# Altium footprint library O_JonF_DaveL.PcbLib: 331 footprints (part 19 of 21)
Each footprint in its own frame and in the unit in brackets; x right, y up, seen from the top. Pads: shape width x height; smd on the part's side, far side on the other; paste and mask are expansions set on the pad; w line width, h text height; cw(c..) or ccw(c..) is an arc to the next point about the centre after c.
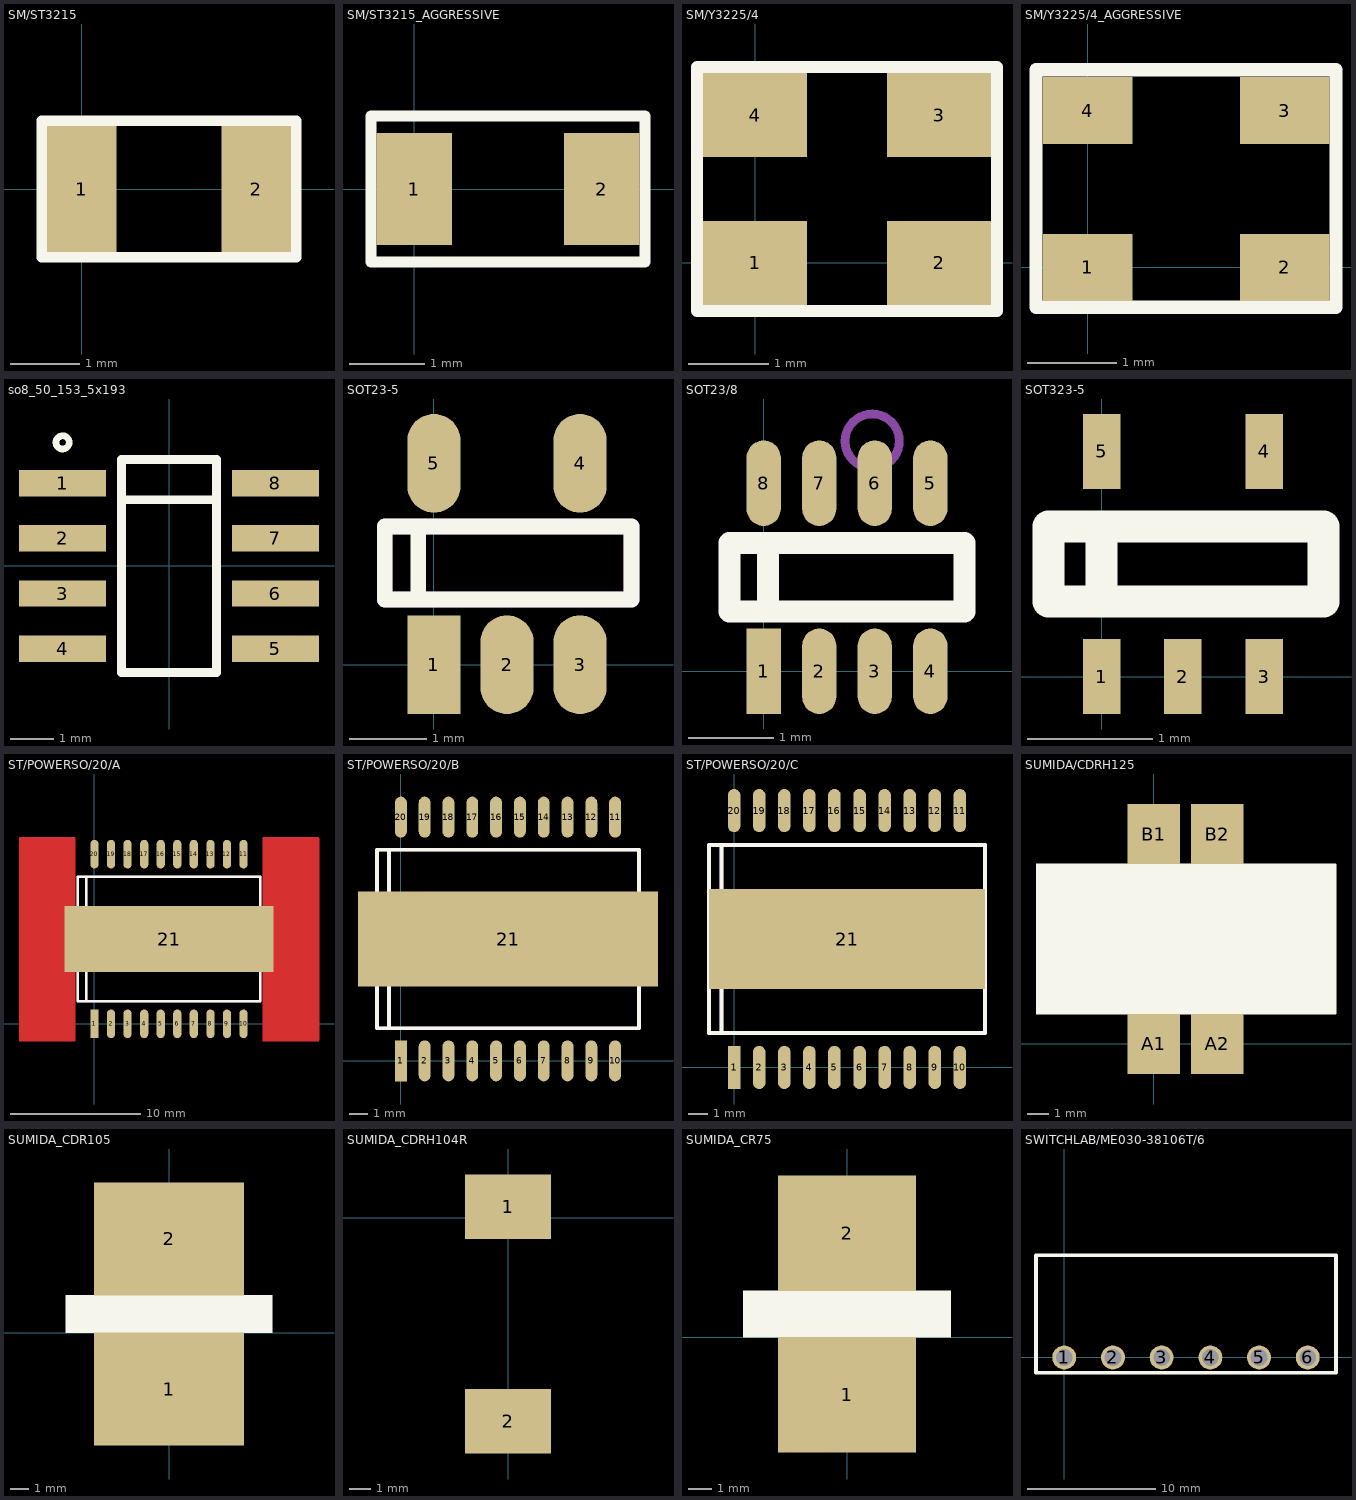
[diagram p18: the footprints below, top view; thin cyan lines are the x and y axes]

## SM/ST3215 [mm]
pads (2):
  rect 1x1.8 smd: 1(0,0) 2(2.5,0)
Top Overlay:
  lines w0.15: -0.575,-0.975 3.075,-0.975 3.075,0.975 -0.575,0.975 -0.575,-0.975
  text ".Designator" at -0.658,0.836 h1.5
Mechanical 1:
  text ".Designator" at 0,9 h1.5
  text ".Comment" at 0,6 h1.5
  text ".Pattern" at 0,0 h1.5

## SM/ST3215_AGGRESSIVE [mm]
pads (2):
  rect 1x1.5 smd: 1(0,0) 2(2.5,0)
Top Overlay:
  lines w0.15: -0.575,-0.975 -0.575,0.975 3.075,0.975 3.075,-0.975 -0.575,-0.975
  text ".Designator" at -0.658,0.836 h1.5
Mechanical 1:
  text ".Pattern" at 0,0 h1.5
  text ".Comment" at 0,6 h1.5
  text ".Designator" at 0,9 h1.5

## SM/Y3225/4 [mm]
pads (4):
  rect 1.3x1.05 smd: 1(0,0) 2(2.3,0) 3(2.3,1.85) 4(0,1.85)
Top Overlay:
  lines w0.15: -0.726,-0.599 3.025,-0.599 3.025,2.448 -0.726,2.448 -0.726,-0.599
  text ".Designator" at -0.77,2.375 h1.5
Mechanical 1:
  text ".Pattern" at 0,0 h1.5
  text ".Comment" at 0,6 h1.5
  text ".Designator" at 0,9 h1.5

## SM/Y3225/4_AGGRESSIVE [mm]
pads (4):
  rect 1x0.75 smd: 1(0,0) 2(2.2,0) 3(2.2,1.75) 4(0,1.75)
Top Overlay:
  lines w0.15: -0.576,-0.444 2.773,-0.444 2.773,2.205 -0.576,2.205 -0.576,-0.444
  text ".Designator" at -0.77,2.375 h1.5
Mechanical 1:
  text ".Pattern" at 0,0 h1.5
  text ".Comment" at 0,6 h1.5
  text ".Designator" at 0,9 h1.5

## so8_50_153_5x193 [mil]
pads (8):
  rect 79x24 smd: 1(-96.5,75) 2(-96.5,25) 3(-96.5,-25) 4(-96.5,-75) 5(96.5,-75) 6(96.5,-25) 7(96.5,25) 8(96.5,75)
Top Overlay:
  circle w6: c-96.5,112 r6
  lines w8: -43,60 43,60 ; -43,-96.5 43,-96.5 43,96.5 -43,96.5 -43,-96.5

## SOT23-5 [mil]
pads (5):
  rect 27x50 smd: 1(0,0)
  oval 27x50 smd: 2(37,0) 3(74,0) 4(74,102) 5(0,102)
Top Overlay:
  lines w8: -8,34 -8,69 ; -25,33 100,33 100,70 -25,70 -25,33
Mechanical 1:
  lines w8: -25,33 -25,70 100,70 100,33 -25,33

## SOT23/8 [mm]
pads (8):
  rect 0.4x1 smd: 1(0,0)
  oval 0.4x1 smd: 2(0.65,0) 3(1.3,0) 4(1.95,0) 5(1.95,2.2) 6(1.3,2.2) 7(0.65,2.2) 8(0,2.2)
Top Overlay:
  lines w0.254: 0.05,0.7 0.05,1.5 ; -0.4,0.7 -0.4,1.5 2.35,1.5 2.35,0.7 -0.4,0.7
  text ".Designator" at -1.268,3.554 h0.95
Mechanical 1:
  text ".Pattern" at -3.468,-1.67 h0.57
  text ".Designator" at -0.288,0.124 h0.95
Mechanical 3:
  lines w0.102: 0.952,2.692 cw(c1.27,2.692) 1.27,3.01 cw(c1.27,2.692) 1.587,2.692 cw(c1.27,2.692) 1.27,2.375 cw(c1.27,2.692) 0.953,2.692

## SOT323-5 [mm]
pads (5):
  rect 0.3x0.6 smd: 1(0,0) 2(0.65,0) 3(1.3,0) 4(1.3,1.8) 5(0,1.8)
Top Overlay:
  lines w0.254: 0,0.6 0,1.2 ; -0.425,0.6 1.775,0.6 1.775,1.2 -0.425,1.2 -0.425,0.6
  text ".Designator" at -1.7,-2.2 h0.95
Mechanical 1:
  text ".Pattern" at -2.8,2.1 h0.95
  text ".Designator" at -1.7,-2.2 h0.95
  text ".Comment" at -1.9,4.6 h0.95

## ST/POWERSO/20/A [mil]
pads (21):
  rect 25x86 smd: 1(0,0)
  oval 25x86 smd: 2(50,0) 3(100,0) 4(150,0) 5(200,0) 6(250,0) 7(300,0) 8(350,0) 9(400,0) 10(450,0) 11(450,512) 12(400,512) 13(350,512) 14(300,512) 15(250,512) 16(200,512) 17(150,512) 18(100,512) 19(50,512) 20(0,512)
  rect 630x200 smd: 21(225,256)
Top Layer:
  region: -58.09,561.91 -57.29,560 -57.29,-50 -58.09,-51.91 -60,-52.71 -225,-52.71 -226.91,-51.91 -227.71,-50 -227.71,560 -226.91,561.91 -225,562.71 -60,562.71
  region: 676.91,561.91 677.71,560 677.71,-50 676.91,-51.91 675,-52.71 510,-52.71 508.09,-51.91 507.29,-50 507.29,560 508.09,561.91 510,562.71 675,562.71
Top Overlay:
  lines w8: -25,68.5 -25,443.5 ; -50,68.5 -50,443.5 500,443.5 500,68.5 -50,68.5
  text ".Designator" at -242.35,481.88 h37.5
Top Solder:
  region: 676.91,561.91 677.71,560 677.71,-50 676.91,-51.91 675,-52.71 510,-52.71 508.09,-51.91 507.29,-50 507.29,560 508.09,561.91 510,562.71 675,562.71
  region: -58.09,561.91 -57.29,560 -57.29,-50 -58.09,-51.91 -60,-52.71 -225,-52.71 -226.91,-51.91 -227.71,-50 -227.71,560 -226.91,561.91 -225,562.71 -60,562.71
Mechanical 1:
  lines w8: -25,68.5 -25,443.5 ; -50,68.5 -50,443.5 500,443.5 500,68.5 -50,68.5
  text ".Designator" at 307.65,231.88 h37.5
  text ".Comment" at 289.47,291 h37.5
  text ".Pattern" at 181.13,189.23 h22.5
Mechanical 3:
  lines w4: 362.5,256 cw(c375,256) 375,268.5 cw(c375,256) 387.5,256 cw(c375,256) 375,243.5 cw(c375,256) 362.5,256

## ST/POWERSO/20/B [mil]
pads (21):
  rect 25x86 smd: 1(0,0)
  oval 25x86 smd: 2(50,0) 3(100,0) 4(150,0) 5(200,0) 6(250,0) 7(300,0) 8(350,0) 9(400,0) 10(450,0) 11(450,512) 12(400,512) 13(350,512) 14(300,512) 15(250,512) 16(200,512) 17(150,512) 18(100,512) 19(50,512) 20(0,512)
  rect 630x200 smd: 21(225,256)
Top Overlay:
  lines w8: -25,68.5 -25,443.5 ; -50,68.5 -50,443.5 500,443.5 500,68.5 -50,68.5
  text ".Designator" at -242.35,481.88 h37.5
Mechanical 1:
  lines w8: -25,68.5 -25,443.5 ; -50,68.5 -50,443.5 500,443.5 500,68.5 -50,68.5
  text ".Designator" at 307.65,231.88 h37.5
  text ".Comment" at 289.47,291 h37.5
  text ".Pattern" at 181.13,189.23 h22.5
Mechanical 3:
  lines w4: 362.5,256 cw(c375,256) 375,268.5 cw(c375,256) 387.5,256 cw(c375,256) 375,243.5 cw(c375,256) 362.5,256

## ST/POWERSO/20/C [mil]
pads (21):
  rect 25x86 smd: 1(0,0)
  oval 25x86 smd: 2(50,0) 3(100,0) 4(150,0) 5(200,0) 6(250,0) 7(300,0) 8(350,0) 9(400,0) 10(450,0) 11(450,512) 12(400,512) 13(350,512) 14(300,512) 15(250,512) 16(200,512) 17(150,512) 18(100,512) 19(50,512) 20(0,512)
  rect 550x200 smd: 21(225,256)
Top Overlay:
  lines w8: -25,68.5 -25,443.5 ; -50,68.5 -50,443.5 500,443.5 500,68.5 -50,68.5
  text ".Designator" at -242.35,481.88 h37.5
Mechanical 1:
  lines w8: -25,68.5 -25,443.5 ; -50,68.5 -50,443.5 500,443.5 500,68.5 -50,68.5
  text ".Designator" at 307.65,231.88 h37.5
  text ".Comment" at 289.47,291 h37.5
  text ".Pattern" at 181.13,189.23 h22.5
Mechanical 3:
  lines w4: 362.5,256 cw(c375,256) 375,268.5 cw(c375,256) 387.5,256 cw(c375,256) 375,243.5 cw(c375,256) 362.5,256

## SUMIDA/CDRH125 [mm]
pads (4):
  rect 2.45x2.8 smd: A1(0,0) A2(2.95,0) B1(0,9.8) B2(2.95,9.8)
Top Overlay:
  region: 8.5,8.4 8.501,8.4 8.501,1.4 8.5,1.4 8.5,1.399 -5.5,1.399 -5.5,1.4 -5.501,1.4 -5.501,8.4 -5.5,8.4 -5.5,8.401 8.5,8.401
  text ".Designator" at 8.7,8.4 h1.5
Mechanical 1:
  text ".Pattern" at 0,0 h1.5
  text ".Comment" at 0,6 h1.5
  text ".Designator" at 8.7,8.4 h1.5

## SUMIDA_CDR105 [mm]
pads (2):
  rect 8x6 smd: 1(0,-3) 2(0,5)
Top Overlay:
  region: 5.5,2 5.501,2 5.501,0 5.5,0 5.5,-0.001 -5.5,-0.001 -5.5,0 -5.501,0 -5.501,2 -5.5,2 -5.5,2.001 5.5,2.001
  text ".Designator" at -6,9 h1.5
Mechanical 1:
  text ".Comment" at 12,6 h1.5
  text ".Designator" at 12,9 h1.5
  text ".Pattern" at 12,0 h1.5

## SUMIDA_CDRH104R [mm]
pads (2):
  rect 4x3 smd: 1(0,0.5) 2(0,-9.5)
Top Overlay:
  text ".Designator" at -6,2 h1.5
Mechanical 1:
  text ".Designator" at 7,0 h1.5
  text ".Comment" at 7,-3 h1.5
  text ".Pattern" at 7,-9 h1.5

## SUMIDA_CR75 [mm]
pads (2):
  rect 6x5 smd: 1(0,-2.5) 2(0,4.5)
Top Overlay:
  region: 4.5,2 4.501,2 4.501,0 4.5,0 4.5,-0.001 -4.5,-0.001 -4.5,0 -4.501,0 -4.501,2 -4.5,2 -4.5,2.001 4.5,2.001
  text ".Designator" at -4,8 h1.5
Mechanical 1:
  text ".Comment" at 12,6 h1.5
  text ".Designator" at 12,9 h1.5
  text ".Pattern" at 12,0 h1.5

## SWITCHLAB/ME030-38106T/6 [mm]
pads (6):
  round 1.875 hole 1.3: 1(0,0) 2(3.81,0) 3(7.62,0) 4(11.43,0) 5(15.24,0) 6(19.05,0)
Top Overlay:
  lines w0.3: -2.21,-1.2 21.26,-1.2 21.26,8 -2.21,8 -2.21,-1.2
  text ".Designator" at -0.724,-3.3 h0.95
Mechanical 1:
  text ".Designator" at -0.724,-3.3 h0.95
  text ".Comment" at -0.724,-4.853 h0.95
  text ".Pattern" at -0.809,-8.045 h0.95